# EAGLE library part TPA6120A2 (library ic-TI)
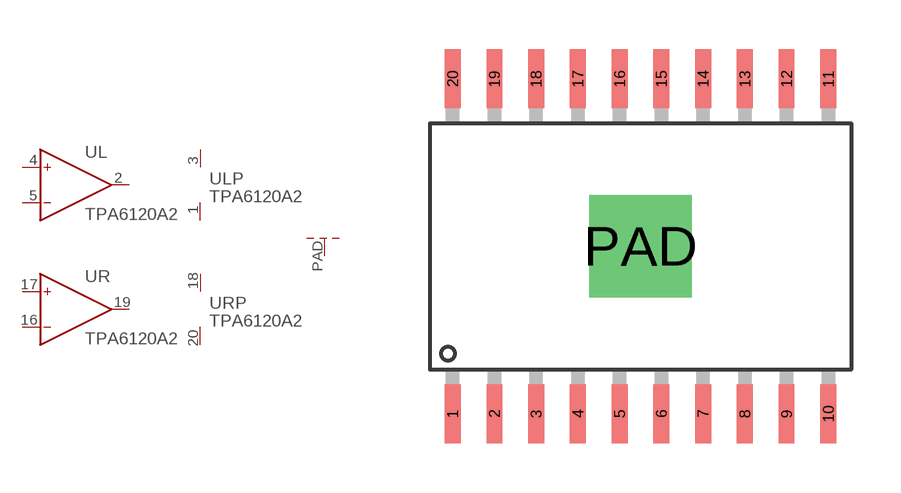
[diagram p24: symbol with the pads of SOP20W-PAD; footprint SOP20W-PAD]

Designator prefix U; gates L=OPAMP LP=OPAMP_PWR R=OPAMP RP=OPAMP_PWR TP=PAD

## TPA6120A2  [SOP20W-PAD]
1  LP:V-  in
2  L:OUT  out
3  LP:V+  in
4  L:IN+  in
5  L:IN-  in
16  R:IN-  in
17  R:IN+  in
18  RP:V+  in
19  R:OUT  out
20  RP:V-  in
PAD  TP:PAD  pas

## Footprint SOP20W-PAD (pad centres in mm)
smd 0.48 x 1.8: 1 -5.715,-5.1; 2 -4.445,-5.1; 3 -3.175,-5.1; 4 -1.905,-5.1; 5 -0.635,-5.1; 6 0.635,-5.1; 7 1.905,-5.1; 8 3.175,-5.1; 9 4.445,-5.1; 10 5.715,-5.1; 11 5.715,5.1; 12 4.445,5.1; 13 3.175,5.1; 14 1.905,5.1; 15 0.635,5.1; 16 -0.635,5.1; 17 -1.905,5.1; 18 -3.175,5.1; 19 -4.445,5.1; 20 -5.715,5.1
drill 2.1 square: PAD 0,0